# EAGLE library part PMBT3946YPN (library hacesoft)
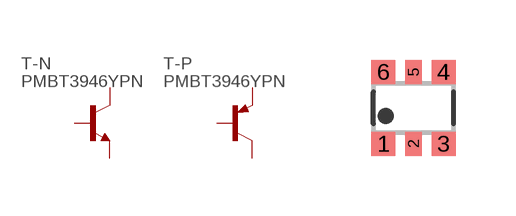
[diagram p22: symbol with the pads of SOT363; footprint SOT363]

Designator prefix T; gates -N=NPN -P=PNP

## PMBT3946YPN  [SOT363]
1  -N:E  pas
2  -N:B  pas
3  -P:C  pas
4  -P:E  pas
5  -P:B  pas
6  -N:C  pas

## Footprint SOT363 (pad centres in mm)
smd 0.6 x 0.6: 1 -0.75,-0.9; 3 0.75,-0.9; 4 0.75,0.9; 6 -0.75,0.9
smd 0.4 x 0.6: 2 0,-0.9; 5 0,0.9